# Altium schematic symbol library LST0-217.SchLib: 1 symbol
Pins are listed as number, name and electrical type; pins without a type are passive.

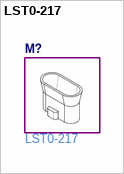
[diagram p0: symbol LST0-217]

## LST0-217
designator M?  Manufacturer Part Number: LST0-217  (hidden comment: *)